# Altium footprint library PcbLib.PcbLib: 1 footprints
Each footprint in its own frame and in the unit in brackets; x right, y up, seen from the top. Pads: shape width x height; smd on the part's side, far side on the other; paste and mask are expansions set on the pad; w line width, h text height; cw(c..) or ccw(c..) is an arc to the next point about the centre after c.
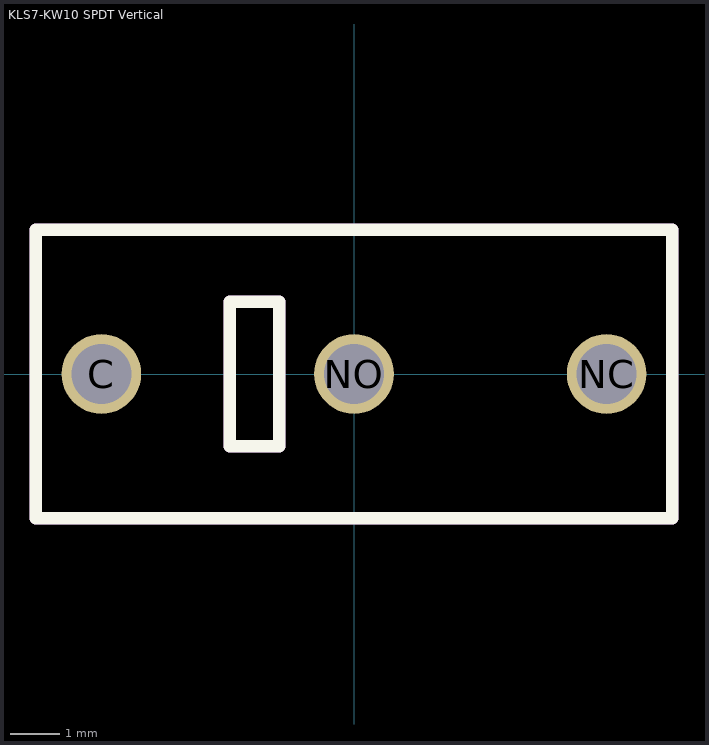
[diagram p0: the footprint, top view; thin cyan lines are the x and y axes]

## KLS7-KW10 SPDT Vertical [mm] "Microswitch SPDT"
height 20
pads (3):
  round 1.6 hole 1.2: C(-5.08,0) NC(5.08,0) NO(0,0)
Top Overlay:
  lines w0.254: -6.4,-2.9 6.4,-2.9 6.4,2.9 -6.4,2.9 -6.4,-2.9 ; -2.5,-1.45 -1.5,-1.45 -1.5,1.45 -2.5,1.45 -2.5,-1.45
Mechanical 13:
  lines w0.254: -6.4,-2.9 6.4,-2.9 6.4,2.9 -6.4,2.9 -6.4,-2.9 ; -2.5,-1.45 -1.5,-1.45 -1.5,1.45 -2.5,1.45 -2.5,-1.45